# Altium schematic symbol library VLCF4028T-150MR88-2.SchLib: 1 symbol
Pins are listed as number, name and electrical type; pins without a type are passive.

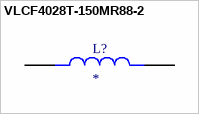
[diagram p0: symbol VLCF4028T-150MR88-2]

## VLCF4028T-150MR88-2
designator L?
SMD / SMT Inductor (Coil), 1.2 - 470 nH, 100 kHz, 0.25 - 3.11 A, 27 - 3980 Ohm, 4 x 4 x 2.8 (LxWxH); MF: TDK; MP: VLCF4028T-150MR88-2; SnapEDA_Link: https://www.snapeda.com/parts/VLCF4028T-150MR88-2/TDK/view-part/?ref=snap; Package: NON STANDARD-2 TDK; Value: *; Check_prices: https://www.snapeda.com/parts/VLCF4028T-150MR88-2/TDK/view-part/?ref=eda
footprint IND_VLCF4028T-150MR88-2
pins: 1, 2